# Altium schematic symbol library NCV7357.SchLib: 1 symbol
Pins are listed as number, name and electrical type; pins without a type are passive.

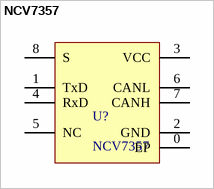
[diagram p0: symbol NCV7357]

## NCV7357
designator U?
pins: 0 EP (power), 1 TxD (power), 2 GND (power), 3 VCC (power), 4 RxD (power), 5 NC (power), 6 CANL (power), 7 CANH (power), 8 S (power)